# EAGLE library part OPA859IDSGR (library OPA859IDSGR)
1.8 GHz Unity-Gain Bandwidth, 3.3 nV/Hz, FET Input Amplifier Source: Datasheet <http://www.ti.com/lit/gpn/opa859>
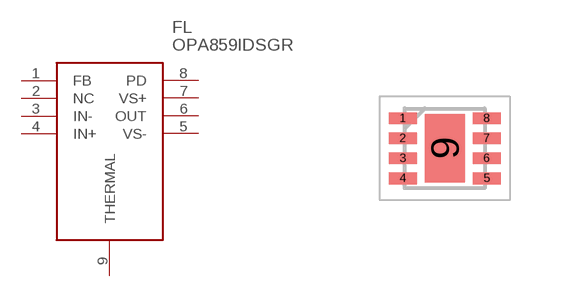
[diagram p0: symbol with the pads of SON50P200X200X80-9N; footprint SON50P200X200X80-9N]

Designator prefix FL

## OPA859IDSGR (Description: 1.8 GHz Unity-Gain Bandwidth, 3.3 nV/Hz, FET Input Amplifier; Height: 0.8mm; Manufacturer_Name: Texas Instruments; Manufacturer_Part_Number: OPA859IDSGR; Mouser_Part_Number: 595-OPA859IDSGR; Mouser_Price-Stock: https://www.mouser.co.uk/ProductDetail/Texas-Instruments/OPA859IDSGR?qs=qSfuJ%252Bfl%2Fd54IFp3Wwx4ug%3D%3D)  [SON50P200X200X80-9N]
1  FB  in
2  NC  nc
3  IN-  in
4  IN+  in
5  VS-  pwr
6  OUT  out
7  VS+  pwr
8  PD  in
9  THERMAL

## Footprint SON50P200X200X80-9N (pad centres in mm)
WSON_8
smd 0.7 x 0.3: 1 -1.05,0.75; 2 -1.05,0.25; 3 -1.05,-0.25; 4 -1.05,-0.75; 5 1.05,-0.75; 6 1.05,-0.25; 7 1.05,0.25; 8 1.05,0.75
smd 1 x 1.7: 9 0,0